# EAGLE library part MIC2196 (library m-pad-2.1)
MICREL's MIC2196 Boost Control IC General Description: Micrel's MIC2196 is a high efficiency PWM boost control IC housed in a SO-8 package. The MIC2196 is optimized for low input voltage applications. With its wide input voltage range of 2.9V to 14V, the MIC2196 can be used to efficiently boost voltages in 3.3V, 5V, and 12V systems, as well as 1- or 2-cell Li Ion battery powered applications. Its powerful 2 Ohm output driver allows the MIC2196 to drive large external MOSFETs. The MIC2196 is ideal for space-sensitive applications. The device is housed in the space-saving SO-8 package, whose low pin-count minimizes external components. Its 400kHz PWM operation allows a small inductor and small output capacitors to be used. The MIC2196 can implement allceramic capacitor solutions. Efficiencies over 90% are achievable over a wide range of load conditions with the MIC2196's PWM boost control scheme. Its fixed frequency PWM architecture also makes the MIC2196 is ideal for noise-sensitive telecommunications applications. MIC2196 features a low current shutdown mode of 1µA and programmable undervoltage lockout. The MIC2196 is available in an 8-pin SOIC package with a junction temperature range from -40°C to +125°C. Features: 2.9V to 14V input voltage range >90% efficiency 2Ohm output driver 400kHz oscillator frequency PWM current mode control 0.5µA micro power shutdown Programmable UVLO Front edge blanking Cycle-by-cycle current limiting Frequency foldback short-circuit protection 8-pin SOIC package Applications: Step-up conversion in telecom/datacom systems SLIC power supplies SEPIC power supplies Low input voltage flyback and forward converters Wireless modems Cable modems ADSL line cards Base stations 1-and 2-cell Li Ion battery operated equipment Please send any comments to: messi@users.sourceforge.net
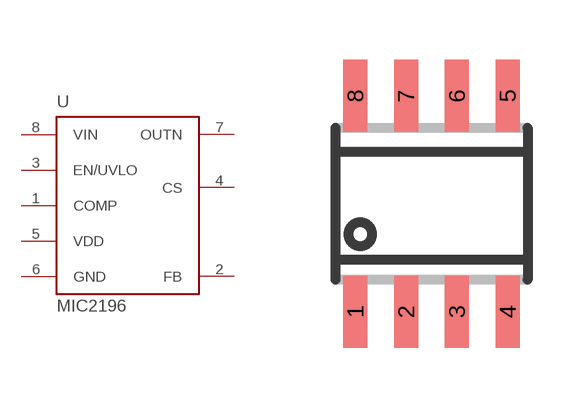
[diagram p62: symbol with the pads of SOIC8; footprint SOIC8]

Designator prefix U

## MIC2196  [SOIC8]
1  COMP  out
2  FB  in
3  EN/UVLO  in
4  CS  in
5  VDD  out
6  GND  pwr
7  OUTN  out
8  VIN  pwr

## Footprint SOIC8 (pad centres in mm)
Small Outline IC
smd 0.6 x 1.8: 1 -1.905,-2.7; 2 -0.635,-2.7; 3 0.635,-2.7; 4 1.905,-2.7; 5 1.905,2.7; 6 0.635,2.7; 7 -0.635,2.7; 8 -1.905,2.7